# EAGLE library part SGL-0363Z (library rfops)
RFMD LNA RFMD SGL-0363Z
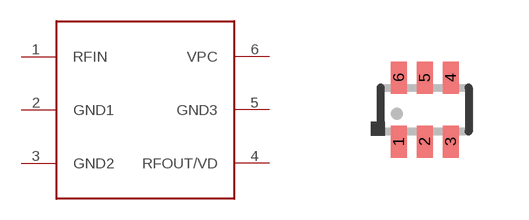
[diagram p21: symbol with the pads of SOT363; footprint SOT363]

Designator prefix LNA

## SGL-0363Z  [SOT363]
1  RFIN  in
2  GND1  pwr
3  GND2  pwr
4  RFOUT/VD  out
5  GND3  pwr
6  VPC  pwr

## Footprint SOT363 (pad centres in mm)
SOT363 Package
smd 0.4 x 0.8: 1 -0.65,-0.8; 2 0,-0.8; 3 0.65,-0.8; 4 0.65,0.8; 5 0,0.8; 6 -0.65,0.8